# Altium footprint library PCB-PCEIOT.PcbLib: 29 footprints (part 2 of 2)
Each footprint in its own frame and in the unit in brackets; x right, y up, seen from the top. Pads: shape width x height; smd on the part's side, far side on the other; paste and mask are expansions set on the pad; w line width, h text height; cw(c..) or ccw(c..) is an arc to the next point about the centre after c.
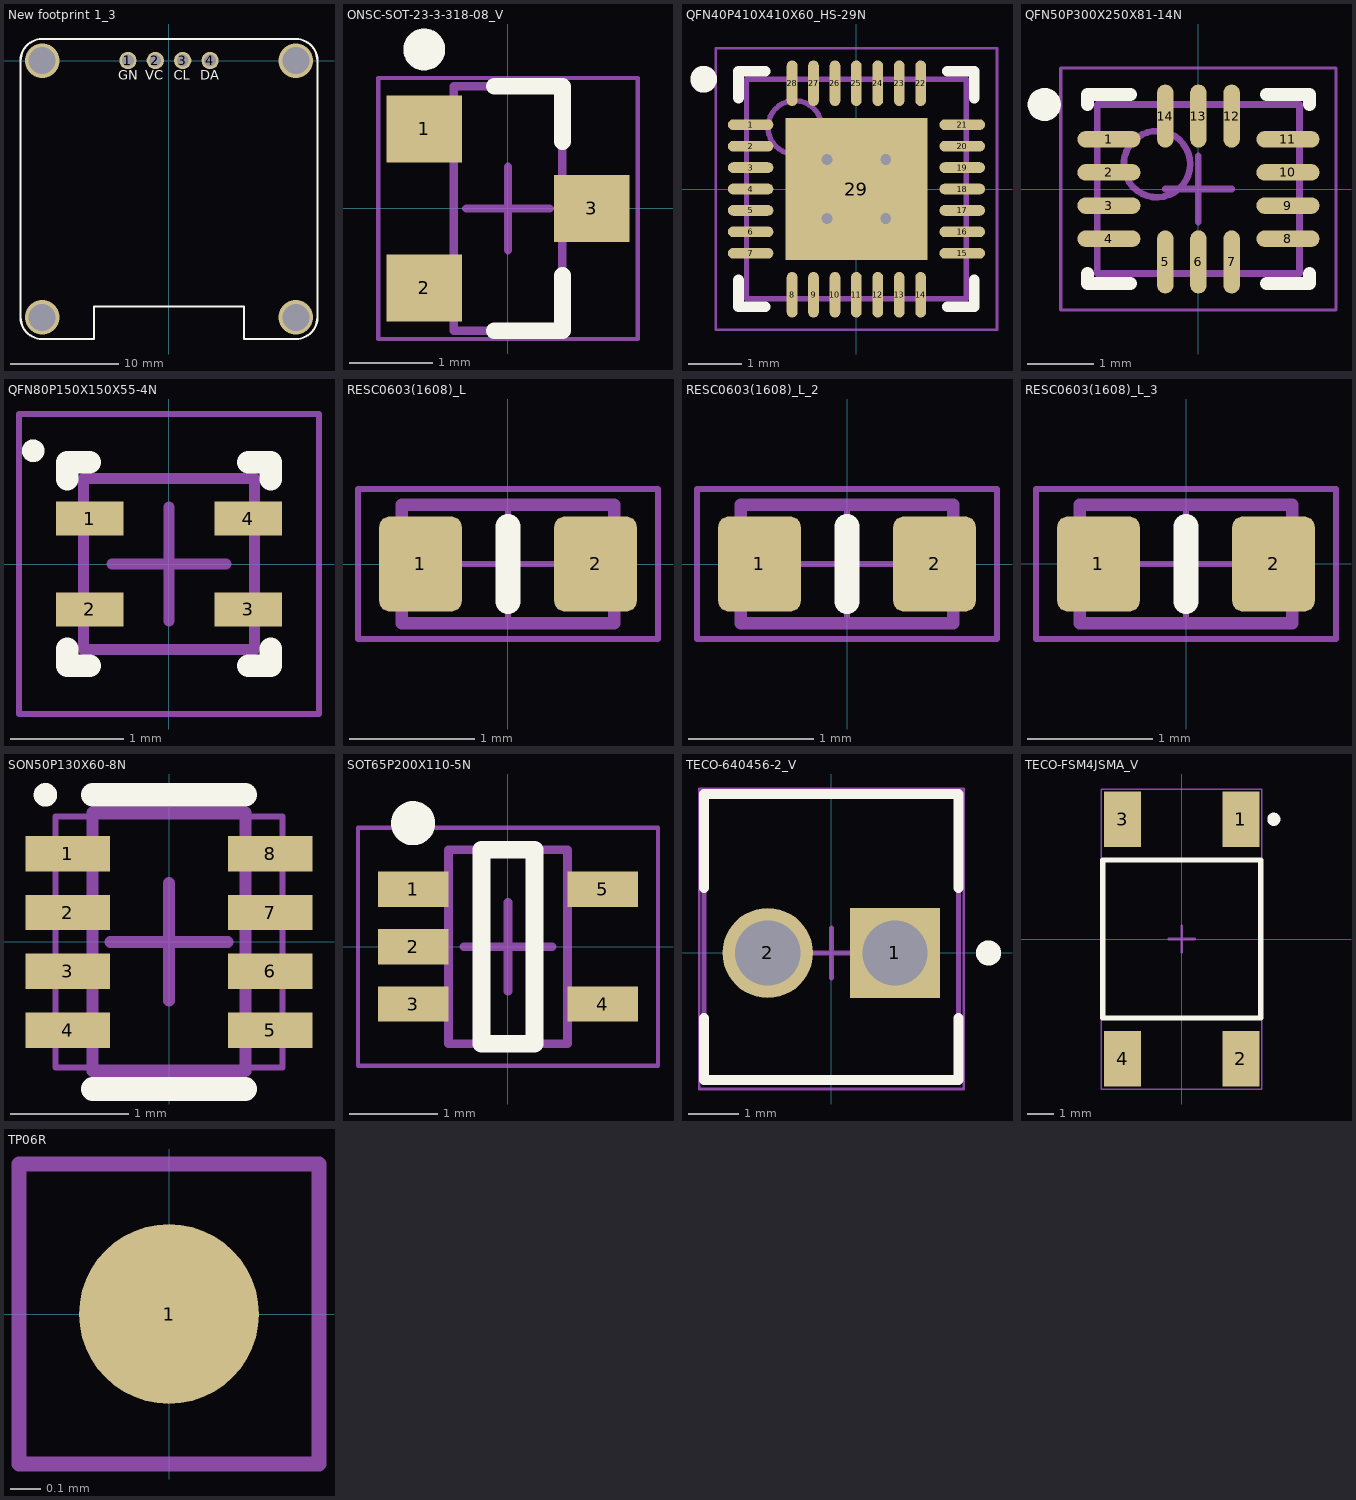
[diagram p1: the footprints below, top view; thin cyan lines are the x and y axes]

## New footprint 1_3 [mm]
pads (4):
  round 1.6 hole 1.1: 1(-3.81,0) 2(-1.27,0) 3(1.27,0) 4(3.81,0)
via -11.75,0 diameter 3.2 hole 2.5
via 11.75,-23.8 diameter 3.2 hole 2.5
via -11.75,-23.8 diameter 3.2 hole 2.5
via 11.75,0 diameter 3.2 hole 2.5
Top Overlay:
  lines w0.2: -11.75,-25.8 cw(c-11.75,-23.8) -13.75,-23.8 -13.75,0 cw(c-11.75,0) -11.75,2 9.75,2 11.75,2 cw(c11.75,0) 13.75,0 13.75,-23.8 cw(c11.75,-23.8) 11.75,-25.8 6.95,-25.8 6.95,-22.8 -6.95,-22.8 -6.95,-25.8 -11.7,-25.8
  text "DA" at 2.881,-2.08 h1.5
  text "GN" at -4.72,-2.081 h1.5
  text "VC" at -2.198,-2.081 h1.5
  text "CL" at 0.457,-2.081 h1.5
3D body "User Library-128x64I2COLEDDisplayAdafruit.step": height 5.47, standoff -5.37, extent -13.32,-25.49 13.38,2.37

## ONSC-SOT-23-3-318-08_V [mm] "SOT23, 3-Leads, Body 2.92x1.3mm, Pitch 0.95mm"
height 1.11
pads (3):
  rect 0.9x0.8 smd: 1(-1,0.95) 2(-1,-0.95) 3(1,0)
Top Overlay:
  circle w0.25: c-1,1.9 r0.125
  lines w0.2: -0.165,-1.46 0.65,-1.46 0.65,-0.8 ; -0.165,1.46 0.65,1.46 0.65,0.8
Mechanical 13:
  lines w0.1: -0.65,-1.46 -0.65,1.46 0.65,1.46 0.65,-1.46 -0.65,-1.46
Mechanical 15:
  lines w0.05: -1.55,-1.56 -1.55,1.56 1.55,1.56 1.55,-1.56 -1.55,-1.56
  lines w0.1: -0.5,0 0.5,0 ; 0,-0.5 0,0.5
3D body "SOT95P240X115-3M.step": height 1.15, standoff 0, extent -1.275,-1.5 1.275,1.5

## QFN40P410X410X60_HS-29N [mm] "QFN, 28-Leads, Body 4,10x4,10mm, Pitch 0,40mm, Thermal Pad 2,65x2,65mm, IPC Medium Density"
height 0.6
pads (29):
  oval 0.85x0.2 smd mask+0.05: 1(-1.975,1.2) 2(-1.975,0.8) 3(-1.975,0.4) 4(-1.975,0) 5(-1.975,-0.4) 6(-1.975,-0.8) 7(-1.975,-1.2) 15(1.975,-1.2) 16(1.975,-0.8) 17(1.975,-0.4) 18(1.975,0) 19(1.975,0.4) 20(1.975,0.8) 21(1.975,1.2)
  oval 0.2x0.85 smd mask+0.05: 8(-1.2,-1.975) 9(-0.8,-1.975) 10(-0.4,-1.975) 11(0,-1.975) 12(0.4,-1.975) 13(0.8,-1.975) 14(1.2,-1.975) 22(1.2,1.975) 23(0.8,1.975) 24(0.4,1.975) 25(0,1.975) 26(-0.4,1.975) 27(-0.8,1.975) 28(-1.2,1.975)
  rect 2.65x2.65 smd mask+0.05: 29(0,0)
via 0.55,-0.55 diameter 0.5 hole 0.2
via -0.55,-0.55 diameter 0.5 hole 0.2
via 0.55,0.55 diameter 0.5 hole 0.2
via -0.55,0.55 diameter 0.5 hole 0.2
Top Overlay:
  circle w0.25: c-2.85,2.05 r0.125
  lines w0.2: -2.2,-1.7 -2.2,-2.2 -1.7,-2.2 ; -2.2,1.7 -2.2,2.2 -1.7,2.2 ; 1.7,-2.2 2.2,-2.2 2.2,-1.7 ; 1.7,2.2 2.2,2.2 2.2,1.7
Mechanical 13:
  circle w0.1: c-1.15,1.15 r0.5
  lines w0.1: -2.05,-2.05 2.05,-2.05 2.05,2.05 -2.05,2.05 -2.05,-2.05
Mechanical 15:
  lines w0.05: -2.625,-2.625 2.625,-2.625 2.625,2.625 -2.625,2.625 -2.625,-2.625
  lines w0.1: -0.5,0 0.5,0 ; 0,-0.5 0,0.5
3D body "QFN40P410X410X60_HS-29N.step": height 0.6, standoff 0, extent -2.07,-2.07 2.07,2.07

## QFN50P300X250X81-14N [mm] "QFN, 14-Leads, Body 3,00x2,50mm, Pitch 0,50mm, IPC Medium Density"
height 0.81
pads (14):
  oval 0.95x0.25 smd mask+0.02: 1(-1.35,0.75) 2(-1.35,0.25) 3(-1.35,-0.25) 4(-1.35,-0.75) 8(1.35,-0.75) 9(1.35,-0.25) 10(1.35,0.25) 11(1.35,0.75)
  oval 0.25x0.95 smd mask+0.02: 5(-0.5,-1.1) 6(0,-1.1) 7(0.5,-1.1) 12(0.5,1.1) 13(0,1.1) 14(-0.5,1.1)
Top Overlay:
  circle w0.25: c-2.325,1.275 r0.125
  lines w0.2: -1.675,-1.275 -1.675,-1.425 -1.025,-1.425 ; -1.675,1.275 -1.675,1.425 -1.025,1.425 ; 1.025,-1.425 1.675,-1.425 1.675,-1.275 ; 1.025,1.425 1.675,1.425 1.675,1.275
Mechanical 13:
  circle w0.1: c-0.625,0.375 r0.5
  lines w0.1: -1.525,-1.275 1.525,-1.275 1.525,1.275 -1.525,1.275 -1.525,-1.275
Mechanical 15:
  lines w0.05: -2.075,-1.825 2.075,-1.825 2.075,1.825 -2.075,1.825 -2.075,-1.825
  lines w0.1: -0.5,0 0.5,0 ; 0,-0.5 0,0.5
3D body "QFN50P300X250X81-14N.step": height 0.81, standoff 0, extent -1.625,-1.375 1.625,1.375

## QFN80P150X150X55-4N [mm] "QFN, 4-Leads, Body 1,50x1,50mm, Pitch 0,80mm, IPC Medium Density"
height 0.55
pads (4):
  rect 0.6x0.3 smd mask+0.05: 1(-0.7,0.4) 2(-0.7,-0.4) 3(0.7,-0.4) 4(0.7,0.4)
Top Overlay:
  circle w0.1: c-1.2,1 r0.05
  lines w0.2: -0.9,-0.75 -0.9,-0.9 -0.7,-0.9 ; -0.9,0.75 -0.9,0.9 -0.7,0.9 ; 0.7,-0.9 0.9,-0.9 0.9,-0.75 ; 0.7,0.9 0.9,0.9 0.9,0.75
Mechanical 13:
  lines w0.1: -0.755,-0.755 -0.755,0.755 0.755,0.755 0.755,-0.755 -0.755,-0.755
Mechanical 15:
  lines w0.05: -1.325,-1.325 -1.325,1.325 1.325,1.325 1.325,-1.325 -1.325,-1.325
  lines w0.1: -0.5,0 0.5,0 ; 0,-0.5 0,0.5
3D body "QFN80P150X150X55-4N.step": height 0.55, standoff 0, extent -0.855,-0.755 0.855,0.755

## RESC0603(1608)_L [mm] "Chip Resistor, Body 1.6x0.8mm, IPC High Density"
height 0.6
pads (2):
  rrect25% 0.66x0.76 smd: 1(-0.7,0) 2(0.7,0)
Top Overlay:
  lines w0.2: 0,-0.3 0,0.3
Top Courtyard:
  lines w0.05: -0.475,0 0.475,0 ; 0,-0.475 0,0.475 ; -1.2,-0.6 1.2,-0.6 1.2,0.6 -1.2,0.6 -1.2,-0.6
Top Assembly:
  lines w0.1: -0.85,-0.475 0.85,-0.475 0.85,0.475 -0.85,0.475 -0.85,-0.475
Top Designator:
  text ".Designator" at -1.27,-0.127 h0.6
3D body "RES0603.step": height 0.45, standoff 0, extent -0.8,-0.4 0.8,0.4

## RESC0603(1608)_L_2 [mm]
pads (2):
  rrect25% 0.66x0.76 smd: 1(-0.7,0) 2(0.7,0)
Top Overlay:
  lines w0.2: 0,-0.3 0,0.3
Top Courtyard:
  lines w0.05: -0.475,0 0.475,0 ; 0,-0.475 0,0.475 ; -1.2,-0.6 -1.2,0.6 1.2,0.6 1.2,-0.6 -1.2,-0.6
Top Assembly:
  lines w0.1: -0.85,-0.475 -0.85,0.475 0.85,0.475 0.85,-0.475 -0.85,-0.475
Top Designator:
  text ".Designator" at -1.27,-0.127 h0.6
3D body "RES0603.step": height 0.45, standoff 0, extent -0.8,-0.4 0.8,0.4

## RESC0603(1608)_L_3 [mm]
pads (2):
  rrect25% 0.66x0.76 smd: 1(-0.7,0) 2(0.7,0)
Top Overlay:
  lines w0.2: 0,-0.3 0,0.3
Mechanical 13:
  lines w0.1: -0.85,-0.475 0.85,-0.475 0.85,0.475 -0.85,0.475 -0.85,-0.475
Mechanical 15:
  lines w0.05: -0.475,0 0.475,0 ; 0,-0.475 0,0.475 ; -1.2,-0.6 1.2,-0.6 1.2,0.6 -1.2,0.6 -1.2,-0.6
Top Designator:
  text ".Designator" at -1.27,-0.127 h0.6
3D body "RES0603.step": height 0.45, standoff 0, extent -0.8,-0.4 0.8,0.4

## SON50P130X60-8N [mm] "SON, 8-Leads, Body 2,20x1,30mm, Pitch 0,50mm, IPC Medium Density"
height 0.6
pads (8):
  rect 0.72x0.3 smd mask+0.05: 1(-0.86,0.75) 2(-0.86,0.25) 3(-0.86,-0.25) 4(-0.86,-0.75) 5(0.86,-0.75) 6(0.86,-0.25) 7(0.86,0.25) 8(0.86,0.75)
Top Overlay:
  circle w0.1: c-1.05,1.25 r0.05
  lines w0.2: -0.65,-1.25 0.65,-1.25 ; -0.65,1.25 0.65,1.25
Mechanical 13:
  lines w0.1: -0.65,-1.1 -0.65,1.1 0.65,1.1 0.65,-1.1 -0.65,-1.1
Mechanical 15:
  lines w0.05: -0.965,-1.067 -0.965,1.067 0.965,1.067 0.965,-1.067 -0.965,-1.067
  lines w0.1: -0.5,0 0.5,0 ; 0,-0.5 0,0.5
3D body "DTS0008A.stp": height 0.55, standoff 0, extent -0.95,-1.063 0.95,1.063

## SOT65P200X110-5N [mm] "SOT23, 5-Leads, Body 2,00x2,00mm, Pitch 0,65mm, IPC Medium Density"
height 1.1
pads (5):
  rect 0.8x0.4 smd mask+0.02: 1(-1.075,0.65) 2(-1.075,0) 3(-1.075,-0.65) 4(1.075,-0.65) 5(1.075,0.65)
Top Overlay:
  circle w0.25: c-1.075,1.4 r0.125
  lines w0.2: -0.3,-1.1 -0.3,1.1 0.3,1.1 0.3,-1.1 -0.3,-1.1
Mechanical 13:
  lines w0.1: -0.675,-1.1 0.675,-1.1 0.675,1.1 -0.675,1.1 -0.675,-1.1
Mechanical 15:
  lines w0.05: -1.7,-1.35 1.7,-1.35 1.7,1.35 -1.7,1.35 -1.7,-1.35
  lines w0.1: -0.5,0 0.5,0 ; 0,-0.5 0,0.5
3D body "SOT65P200X110-5N.step": height 1.1, standoff 0, extent -1.2,-1.1 1.2,1.1

## TECO-640456-2_V [mm] "HDR, 2-Leads, Body 5.715x5.08mm, Pitch 2.54mm"
height 10.49
pads (2):
  rect 1.8x1.8 hole 1.3: 1(1.27,0)
  round 1.8 hole 1.3: 2(-1.27,0)
Top Overlay:
  circle w0.25: c3.14,0 r0.125
  lines w0.2: -2.54,-1.3 -2.54,-2.54 2.54,-2.54 2.54,-1.3 ; -2.54,1.3 -2.54,3.175 2.54,3.175 2.54,1.3
Mechanical 13:
  lines w0.1: -2.54,-2.54 -2.54,3.175 2.54,3.175 2.54,-2.54 -2.54,-2.54
Mechanical 15:
  lines w0.05: -2.64,-2.717 2.64,-2.717 2.64,3.275 -2.64,3.275 -2.64,-2.717
  lines w0.1: -0.5,0 0.5,0 ; 0,-0.5 0,0.5
3D body "c-640456-2-aa-3d.stp": height 9.4, standoff -4.19, extent -2.54,-2.667 2.54,3.175

## TECO-FSM4JSMA_V [mm] "SMD, 4-Leads, Body 6x6mm, Pitch 4.5mm"
height 5.23
pads (4):
  rect 1.4x2.1 smd: 1(2.25,4.55) 2(2.25,-4.55) 3(-2.25,4.55) 4(-2.25,-4.55)
Top Overlay:
  circle w0.25: c3.5,4.55 r0.125
  lines w0.2: -3,-3 3,-3 3,3 -3,3 -3,-3
Mechanical 13:
  lines w0.1: -3,-3 -3,3 3,3 3,-3 -3,-3
Mechanical 15:
  lines w0.05: -3.05,-5.7 -3.05,5.7 3.05,5.7 3.05,-5.7 -3.05,-5.7
  lines w0.1: -0.5,0 0.5,0 ; 0,-0.5 0,0.5
3D body "c-4-1437565-2-s-3d.stp": height 5.08, standoff 0, extent -3,-5 3,5

## TP06R [mm] "Testpoint, round, d=0.6mm"
height 0.6
pads (1):
  round 0.6 smd paste-1: 1(0,0)
Top Assembly:
  lines w0.05: -0.5,-0.5 0.5,-0.5 0.5,0.5 -0.5,0.5 -0.5,-0.5
Top Designator:
  text ".Designator" at -1.27,0.254 h0.6